# EAGLE library part IMST800 (library Transputer)
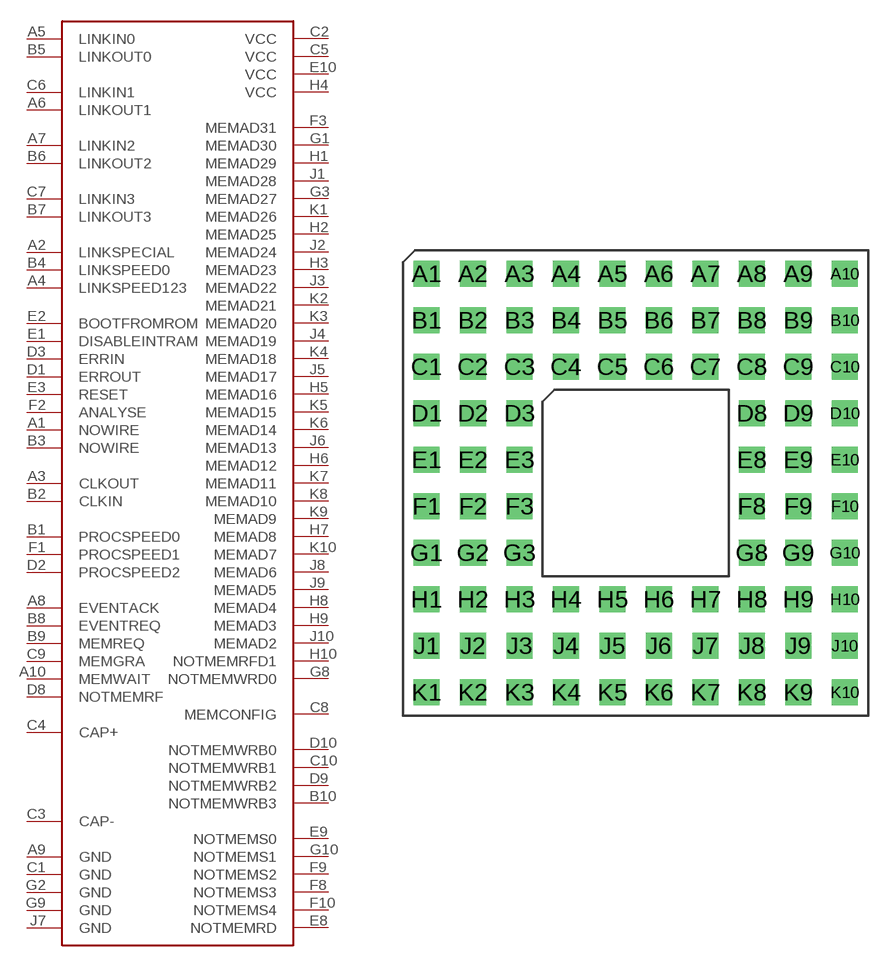
[diagram p13: symbol with the pads of PGA84; footprint PGA84]

Designator prefix IC

## IMST800  [PGA84]
A1  NOWIRE  nc
A2  LINKSPECIAL  in
A3  CLKOUT  out
A4  LINKSPEED123  in
A5  LINKIN0  in
A6  LINKOUT1  out
A7  LINKIN2  in
A8  EVENTACK  out
A9  GND  pwr
A10  MEMWAIT  in
B1  PROCSPEED0  in
B2  CLKIN  in
B3  NOWIRE  nc
B4  LINKSPEED0  in
B5  LINKOUT0  out
B6  LINKOUT2  out
B7  LINKOUT3  out
B8  EVENTREQ  in
B9  MEMREQ  in
B10  NOTMEMWRB3  out
C1  GND  pwr
C2  VCC  pwr
C3  CAP-  pas
C4  CAP+  pas
C5  VCC  pwr
C6  LINKIN1  in
C7  LINKIN3  in
C8  MEMCONFIG  in
C9  MEMGRA  out
C10  NOTMEMWRB1  out
D1  ERROUT  out
D2  PROCSPEED2  in
D3  ERRIN  in
D8  NOTMEMRF  out
D9  NOTMEMWRB2  out
D10  NOTMEMWRB0  out
E1  DISABLEINTRAM  in
E2  BOOTFROMROM  in
E3  RESET  in
E8  NOTMEMRD  out
E9  NOTMEMS0  out
E10  VCC  pwr
F1  PROCSPEED1  in
F2  ANALYSE  in
F3  MEMAD31  out
F8  NOTMEMS3  out
F9  NOTMEMS2  out
F10  NOTMEMS4  out
G1  MEMAD30  out
G2  GND  pwr
G3  MEMAD27  out
G8  NOTMEMWRD0  out
G9  GND  pwr
G10  NOTMEMS1  out
H1  MEMAD29  out
H2  MEMAD25  out
H3  MEMAD23  out
H4  VCC  pwr
H5  MEMAD16  out
H6  MEMAD12  out
H7  MEMAD8  out
H8  MEMAD4  out
H9  MEMAD3  out
H10  NOTMEMRFD1  out
J1  MEMAD28  out
J2  MEMAD24  out
J3  MEMAD22  out
J4  MEMAD19  out
J5  MEMAD17  out
J6  MEMAD13  out
J7  GND  pwr
J8  MEMAD6  out
J9  MEMAD5  out
J10  MEMAD2  out
K1  MEMAD26  out
K2  MEMAD21  out
K3  MEMAD20  out
K4  MEMAD18  out
K5  MEMAD15  out
K6  MEMAD14  out
K7  MEMAD11  out
K8  MEMAD10  out
K9  MEMAD9  out
K10  MEMAD7  out

## Footprint PGA84 (pad centres in mm)
drill 0.8 pad 1.422 square: A1 0,0; A2 2.54,0; A3 5.08,0; A4 7.62,0; A5 10.16,0; A6 12.7,0; A7 15.24,0; A8 17.78,0; A9 20.32,0; A10 22.86,0; B1 0,-2.54; B2 2.54,-2.54; B3 5.08,-2.54; B4 7.62,-2.54; B5 10.16,-2.54; B6 12.7,-2.54; B7 15.24,-2.54; B8 17.78,-2.54; B9 20.32,-2.54; B10 22.86,-2.54; C1 0,-5.08; C2 2.54,-5.08; C3 5.08,-5.08; C4 7.62,-5.08; C5 10.16,-5.08; C6 12.7,-5.08; C7 15.24,-5.08; C8 17.78,-5.08; C9 20.32,-5.08; C10 22.86,-5.08; D1 0,-7.62; D2 2.54,-7.62; D3 5.08,-7.62; D8 17.78,-7.62; D9 20.32,-7.62; D10 22.86,-7.62; E1 0,-10.16; E2 2.54,-10.16; E3 5.08,-10.16; E8 17.78,-10.16; E9 20.32,-10.16; E10 22.86,-10.16; F1 0,-12.7; F2 2.54,-12.7; F3 5.08,-12.7; F8 17.78,-12.7; F9 20.32,-12.7; F10 22.86,-12.7; G1 0,-15.24; G2 2.54,-15.24; G3 5.08,-15.24; G8 17.78,-15.24; G9 20.32,-15.24; G10 22.86,-15.24; H1 0,-17.78; H2 2.54,-17.78; H3 5.08,-17.78; H4 7.62,-17.78; H5 10.16,-17.78; H6 12.7,-17.78; H7 15.24,-17.78; H8 17.78,-17.78; H9 20.32,-17.78; H10 22.86,-17.78; J1 0,-20.32; J2 2.54,-20.32; J3 5.08,-20.32; J4 7.62,-20.32; J5 10.16,-20.32; J6 12.7,-20.32; J7 15.24,-20.32; J8 17.78,-20.32; J9 20.32,-20.32; J10 22.86,-20.32; K1 0,-22.86; K2 2.54,-22.86; K3 5.08,-22.86; K4 7.62,-22.86; K5 10.16,-22.86; K6 12.7,-22.86; K7 15.24,-22.86; K8 17.78,-22.86; K9 20.32,-22.86; K10 22.86,-22.86